# EAGLE library part SIO_JACK (library atari)
SIO Jack
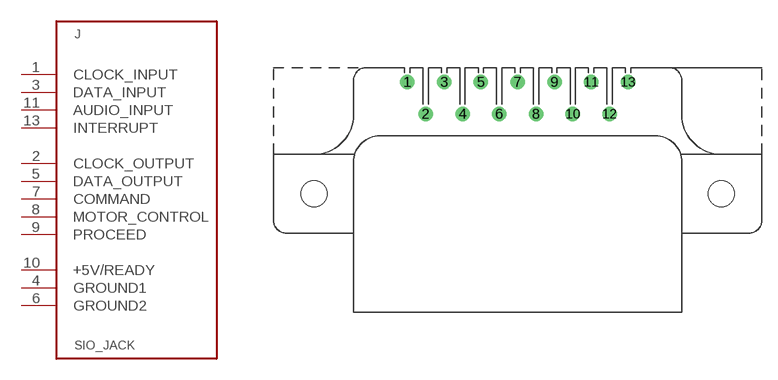
[diagram p15: symbol with the pads of SIO_JACK; footprint SIO_JACK]

Designator prefix J

## SIO_JACK  [SIO_JACK]
1  CLOCK_INPUT  out
2  CLOCK_OUTPUT  in
3  DATA_INPUT  out
4  GROUND1  pwr
5  DATA_OUTPUT  in
6  GROUND2  pwr
7  COMMAND  in
8  MOTOR_CONTROL  in
9  PROCEED
10  +5V/READY  pwr
11  AUDIO_INPUT  out
13  INTERRUPT  out

## Footprint SIO_JACK (pad centres in mm)
Atari SIO Jack, based on footprint drawn by Steve Vigneau.
drill 0.9 round: 1 -11.938,10.795; 2 -10.16,7.715; 3 -8.382,10.795; 4 -6.604,7.715; 5 -4.826,10.795; 6 -3.048,7.715; 7 -1.27,10.795; 8 0.508,7.715; 9 2.286,10.795; 10 4.064,7.715; 11 5.842,10.795; 12 7.62,7.715; 13 9.398,10.795
hole 2.54 at -20.955,0
hole 2.54 at 18.415,0